# EAGLE library part MICROCHIP_TECHNOLOGIES-IO_EXPANDER-MCP23S17 (library Module_ICs)
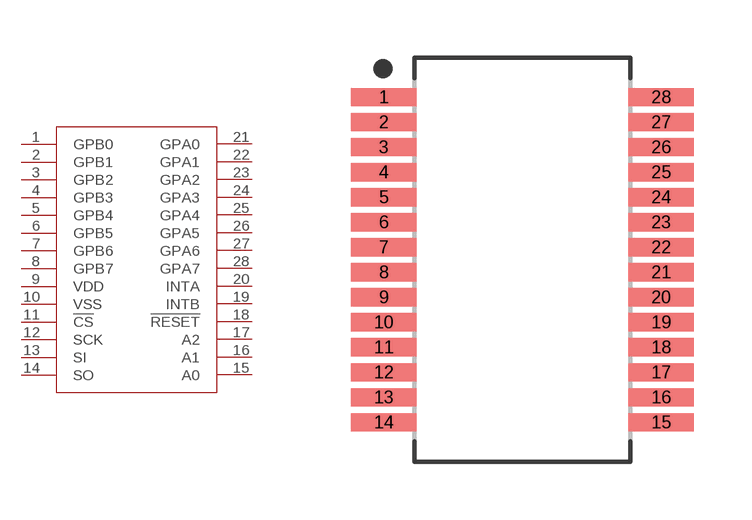
[diagram p39: symbol with the pads of MICROCHIP_TECHNOLOGIES-IO_EXPANDER-MCP23S17; footprint MICROCHIP_TECHNOLOGIES-IO_EXPANDER-MCP23S17]

Designator prefix U

## MICROCHIP_TECHNOLOGIES-IO_EXPANDER-MCP23S17  [MICROCHIP_TECHNOLOGIES-IO_EXPANDER-MCP23S17]
1  GPB0
2  GPB1
3  GPB2
4  GPB3
5  GPB4
6  GPB5
7  GPB6
8  GPB7
9  VDD
10  VSS
11  !CS
12  SCK
13  SI
14  SO
15  A0
16  A1
17  A2
18  !RESET
19  INTB
20  INTA
21  GPA0
22  GPA1
23  GPA2
24  GPA3
25  GPA4
26  GPA5
27  GPA6
28  GPA7

## Footprint MICROCHIP_TECHNOLOGIES-IO_EXPANDER-MCP23S17 (pad centres in mm)
28-SOP, 0.65 mm pitch, 7.80 mm span, 10.20 X 5.30 X 2.00 mm body 28-pin SOP package with 0.65 mm pitch, 7.80 mm span with body size 10.20 X 5.30 X 2.00 mm
smd 1.702 x 0.475: 1 -3.603,4.225; 2 -3.603,3.575; 3 -3.603,2.925; 4 -3.603,2.275; 5 -3.603,1.625; 6 -3.603,0.975; 7 -3.603,0.325; 8 -3.603,-0.325; 9 -3.603,-0.975; 10 -3.603,-1.625; 11 -3.603,-2.275; 12 -3.603,-2.925; 13 -3.603,-3.575; 14 -3.603,-4.225; 15 3.603,-4.225; 16 3.603,-3.575; 17 3.603,-2.925; 18 3.603,-2.275; 19 3.603,-1.625; 20 3.603,-0.975; 21 3.603,-0.325; 22 3.603,0.325; 23 3.603,0.975; 24 3.603,1.625; 25 3.603,2.275; 26 3.603,2.925; 27 3.603,3.575; 28 3.603,4.225